# EAGLE library part 74LVC14 (library 1_spektrak)
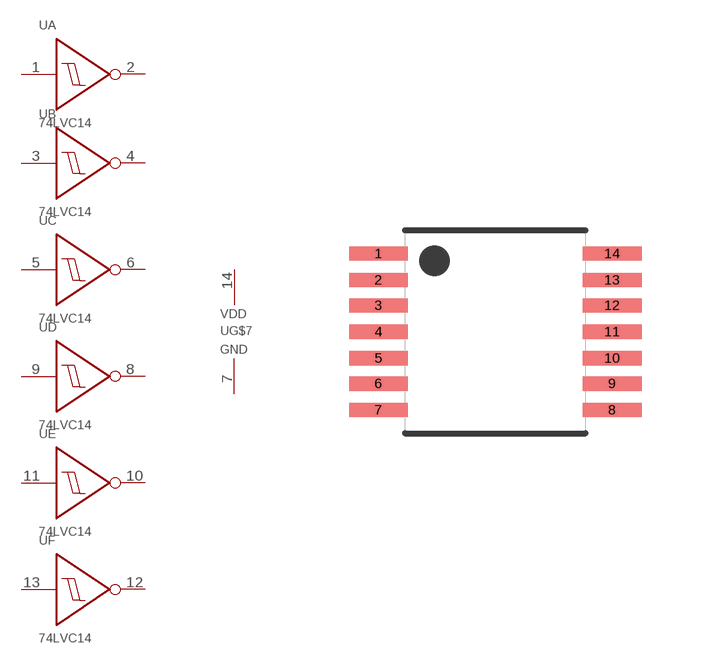
[diagram p33: symbol with the pads of TSSOP14; footprint TSSOP14]

Designator prefix U; gates A=74LVC14 B=74LVC14 C=74LVC14 D=74LVC14 E=74LVC14 F=74LVC14 G$7=PWRGND

## 74LVC14  [TSSOP14]
1  A:A  in
2  A:Y  out
3  B:A  in
4  B:Y  out
5  C:A  in
6  C:Y  out
7  G$7:GND  pwr
8  D:Y  out
9  D:A  in
10  E:Y  out
11  E:A  in
12  F:Y  out
13  F:A  in
14  G$7:VDD  pwr

## Footprint TSSOP14 (pad centres in mm)
smd 1.473 x 0.356: 1 -2.921,1.956; 2 -2.921,1.295; 3 -2.921,0.66; 4 -2.921,0; 5 -2.921,-0.66; 6 -2.921,-1.295; 7 -2.921,-1.956; 8 2.921,-1.956; 9 2.921,-1.295; 10 2.921,-0.66; 11 2.921,0; 12 2.921,0.66; 13 2.921,1.295; 14 2.921,1.956